# Altium schematic symbol library FET_N_1G_2S_3D.SchLib: 1 symbol
Pins are listed as number, name and electrical type; pins without a type are passive.

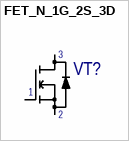
[diagram p0: symbol FET_N_1G_2S_3D]

## FET_N_1G_2S_3D
designator VT?
ManufacturerPartNumber: ManufacturerPartNumber
pins: 1, 2, 3